# Altium footprint library PcbLib1.PcbLib: 9 footprints
Each footprint in its own frame and in the unit in brackets; x right, y up, seen from the top. Pads: shape width x height; smd on the part's side, far side on the other; paste and mask are expansions set on the pad; w line width, h text height; cw(c..) or ccw(c..) is an arc to the next point about the centre after c.
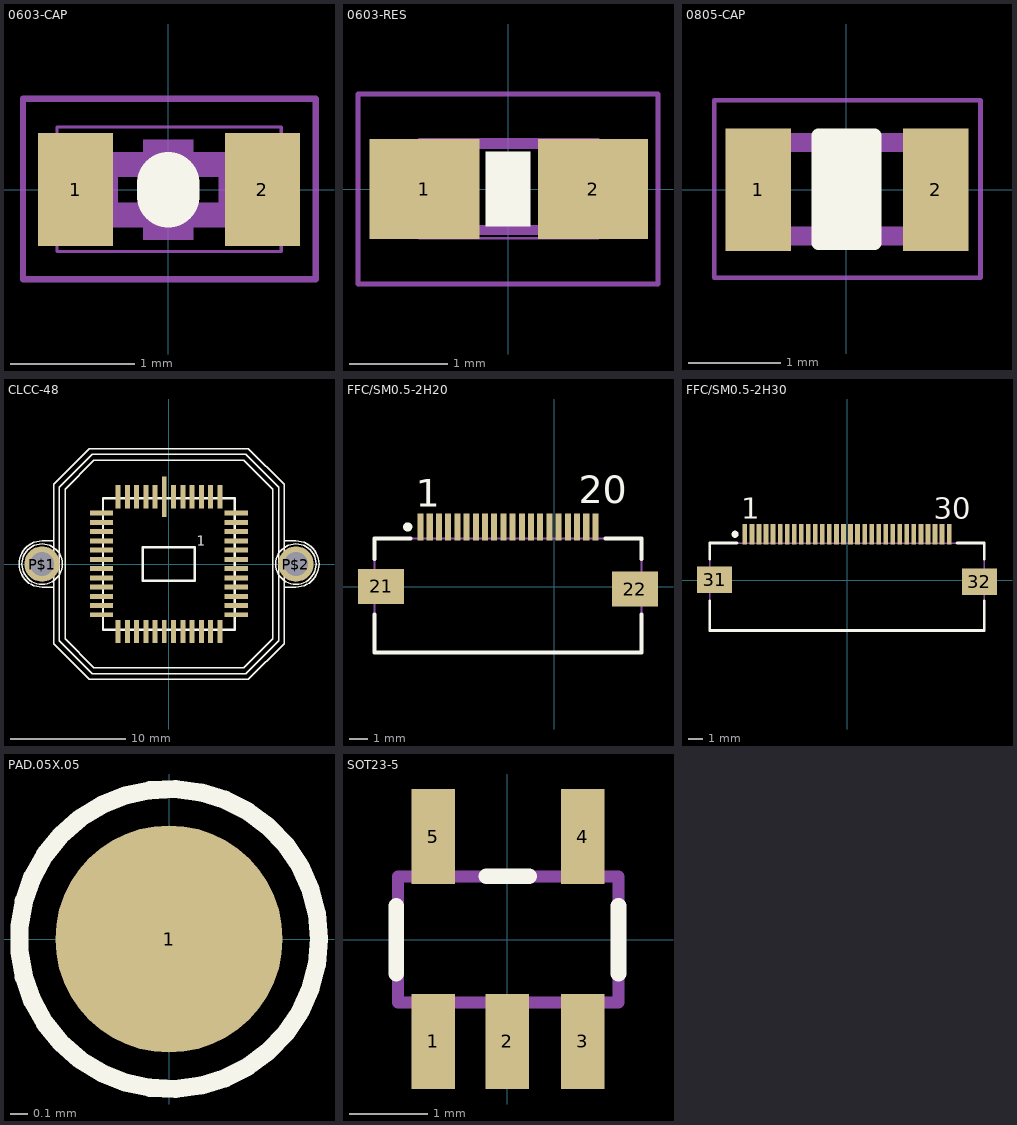
[diagram p0: the footprints below, top view; thin cyan lines are the x and y axes]

## 0603-CAP [mil] "0603-CAP"
pads (2):
  rect 24x36 smd: 1(-29.53,0) 2(30,0)
Top Overlay:
  lines w20: 0,-2 0,2
Mechanical 6:
  rectangle: -7.87,-11.81 8,12
  rectangle: -8,-16 8,16
Mechanical 16:
  rectangle: -28,-12 -16,12
  rectangle: 16,-12 28,12
  rectangle: 16,-12 28,12
  lines w1: -35.43,-19.68 36,-19.68 36,20 -35.43,20 -35.43,-19.68
  lines w2: -46.26,-28.54 47,-28.54 47,29 -46.26,29 -46.26,-28.54
  lines w8: -20,-8 20,-8 ; -20,8 20,8

## 0603-RES [mil] "0603-RES"
pads (2):
  rect 44x40 smd: 1(-33.46,0) 2(34,0)
Top Overlay:
  rectangle: -9,-15 9,15
Mechanical 6:
  rectangle: -7.87,-11.81 8,12
Mechanical 16:
  rectangle: -33,-18.5 -13.31,19
  rectangle: 13,-18.5 33,19
  lines w1: -35.43,-19.68 36,-19.68 36,20 -35.43,20 -35.43,-19.68
  lines w2: -60,-38 60,-38 60,38 -60,38 -60,-38
  lines w4: -14.02,-16.5 15,-16.5 ; -14.02,18 15,18

## 0805-CAP [mil] "0805-CAP"
pads (2):
  rect 28x52 smd: 1(-37.4,0) 2(38,0)
Top Overlay:
  rectangle: -11.76,-22.59 12,23
  lines w6: -11.76,-22.59 12,-22.59 12,23 -11.76,23 -11.76,-22.59
Mechanical 16:
  rectangle: 24,-23.67 40,24
  rectangle: -39.37,-23.67 -23.62,24
  lines w2: -56.1,-37.4 -56.1,38 57,38 57,-37.4 -56.1,-37.4
  lines w8: -23.62,-19.68 24,-19.68 ; -23.62,20 24,20

## CLCC-48 [mil] "CLCC-48"
pads (50):
  rect 17x138 smd: 1(-15.75,230)
  rect 17x79 smd: 2(-47.24,230) 3(-78.74,230) 4(-110.24,230) 5(-141.73,230) 6(-173.23,230) 19(-173.23,-229.92) 20(-141.73,-229.92) 21(-110.24,-229.92) 22(-78.74,-229.92) 23(-47.24,-229.92) 24(-15.75,-229.92) 25(16,-229.92) 26(48,-229.92) 27(79,-229.92) 28(111,-229.92) 29(142,-229.92) 30(174,-229.92) 43(174,230) 44(142,230) 45(111,230) 46(79,230) 47(48,230) 48(16,230)
  rect 79x17 smd: 7(-229.92,174) 8(-229.92,142) 9(-229.92,111) 10(-229.92,79) 11(-229.92,48) 12(-229.92,16) 13(-229.92,-15.75) 14(-229.92,-47.24) 15(-229.92,-78.74) 16(-229.92,-110.24) 17(-229.92,-141.73) 18(-229.92,-173.23) 31(230,-173.23) 32(230,-141.73) 33(230,-110.24) 34(230,-78.74) 35(230,-47.24) 36(230,-15.75) 37(230,16) 38(230,48) 39(230,79) 40(230,111) 41(230,142) 42(230,174)
  round 121.5 hole 81: P$1(-433.07,0) P$2(434,0)
Top Overlay:
  circle w5: c434,0 r69
  circle w5: c-433.07,0 r69
  lines w5: -393.7,-78.74 -433.07,-78.74 cw(c-433.07,0.13) -433.07,79 -393.7,79 ; -393.7,-78.74 -393.7,79 ; -393.7,-78.74 -393.7,-271.65 -271.65,-393.7 272,-393.7 394,-271.65 394,-78.74 ; -393.7,79 -393.7,272 -271.65,394 272,394 394,272 394,79 ; 394,-78.74 434,-78.74 ccw(c434,0.13) 434,79 394,79 ; 394,-78.74 394,79 ; -374.02,-261.81 -374.02,262 -261.81,375 262,375 375,262 375,-261.81 262,-374.02 -261.81,-374.02 -374.02,-261.81 ; -354.33,-255.91 -354.33,256 -255.91,355 256,355 355,256 355,-255.91 256,-354.33 -255.91,-354.33 -354.33,-255.91
  lines w8: -225,-225 -225,225 225,225 225,-225 -225,-225 ; -88.78,-56.69 89,-56.69 89,57 -88.78,57 -88.78,-56.69
  text "1" at 95,63 h34

## FFC/SM0.5-2H20 [mm]
height 2
pads (22):
  rect 0.33x1.45 smd: 1(-7.268,3.252) 2(-6.768,3.252) 3(-6.268,3.252) 4(-5.768,3.252) 5(-5.268,3.252) 6(-4.768,3.252) 7(-4.268,3.252) 8(-3.768,3.252) 9(-3.268,3.252) 10(-2.768,3.252) 11(-2.268,3.252) 12(-1.768,3.252) 13(-1.268,3.252) 14(-0.768,3.252) 15(-0.268,3.252) 16(0.232,3.252) 17(0.732,3.252) 18(1.232,3.252) 19(1.732,3.252) 20(2.232,3.252)
  rect 2.5x1.9 smd: 21(-9.418,0.027) 22(4.382,-0.123)
Top Overlay:
  circle w0.25: c-7.968,3.252 r0.125
  lines w0.2: -9.768,-1.498 -9.768,-3.573 4.732,-3.573 4.732,-1.498 ; -9.768,1.502 -9.768,2.627 -7.818,2.627 ; 2.782,2.627 4.732,2.627 4.732,1.502
  text "1" at -7.518,4.352 h1.5
  text "20" at 1.321,4.547 h1.5
Mechanical 13:
  lines w0.1: -9.768,-3.573 -9.768,2.627 4.732,2.627 4.732,-3.573 -9.768,-3.573
3D body: height 2, standoff 0, extent -9.728,-3.581 4.699,2.591

## FFC/SM0.5-2H30 [mm]
height 2
pads (32):
  rect 0.33x1.45 smd: 1(-7.268,3.252) 2(-6.768,3.252) 3(-6.268,3.252) 4(-5.768,3.252) 5(-5.268,3.252) 6(-4.768,3.252) 7(-4.268,3.252) 8(-3.768,3.252) 9(-3.268,3.252) 10(-2.768,3.252) 11(-2.268,3.252) 12(-1.768,3.252) 13(-1.268,3.252) 14(-0.768,3.252) 15(-0.268,3.252) 16(0.232,3.252) 17(0.732,3.252) 18(1.232,3.252) 19(1.732,3.252) 20(2.232,3.252) 21(2.732,3.252) 22(3.232,3.252) 23(3.732,3.252) 24(4.232,3.252) 25(4.732,3.252) 26(5.232,3.252) 27(5.732,3.252) 28(6.232,3.252) 29(6.732,3.252) 30(7.232,3.252)
  rect 2.5x1.9 smd: 31(-9.418,0.027) 32(9.382,-0.123)
Top Overlay:
  circle w0.25: c-7.968,3.252 r0.125
  lines w0.2: -9.768,-1.498 -9.768,-3.573 9.732,-3.573 9.732,-1.498 ; -9.768,1.502 -9.768,2.627 -7.818,2.627 ; 7.782,2.627 9.732,2.627 9.732,1.502
  text "30" at 6.132,4.352 h1.5
  text "1" at -7.518,4.352 h1.5
Mechanical 13:
  lines w0.1: -9.768,-3.573 9.732,-3.573 9.732,2.627 -9.768,2.627 -9.768,-3.573
3D body: height 2, standoff 0, extent -9.768,-3.573 9.732,2.627

## PAD.05X.05 [mil] "PAD.05X.05"
pads (1):
  rrect100% 50x50 smd: 1(0,0)
Top Overlay:
  circle w4: c0,0 r33

## PCBComponent_1 [mil]

## SOT23-5 [mil] "SOT23-5"
pads (5):
  rect 22x48 smd: 1(-37.4,-51.19) 2(0,-51.19) 3(38,-51.19) 4(38,52) 5(-37.4,52)
Top Overlay:
  lines w8: -56,-16.91 -56,17 ; -10.57,32 11,32 ; 56,-16.91 56,17
Mechanical 16:
  rectangle: -47.24,34.01 -27.56,60.01
  rectangle: 28,34 48,60
  rectangle: 28,-59.06 48,-33.46
  rectangle: -9.84,-59.06 10,-33.46
  rectangle: -47.24,-59.06 -27.56,-33.46
  lines w1: -55.12,-31.5 -55.12,32 56,32 56,-31.5 -55.12,-31.5
  lines w6: -55.12,-31.5 -55.12,32 56,32 56,-31.5 -55.12,-31.5